# EAGLE library part MCP6L02 (library yapo)
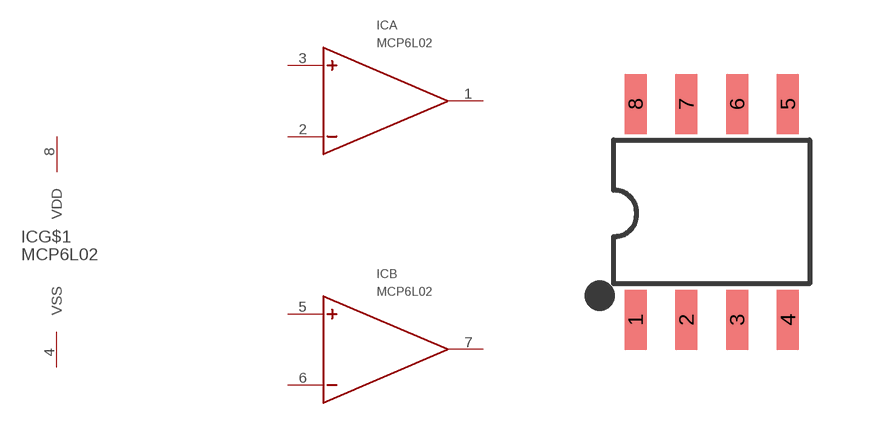
[diagram p89: symbol with the pads of SOIC8; footprint SOIC8]

Designator prefix IC; gates G$1=VDD-VSS A=OP_AMP B=OP_AMP

## MCP6L02  [SOIC8]
1  A:OUT
2  A:-
3  A:+
4  G$1:VSS
5  B:+
6  B:-
7  B:OUT
8  G$1:VDD

## Footprint SOIC8 (pad centres in mm)
smd 0.55 x 1.5: 1 -1.905,-2.7; 2 -0.635,-2.7; 3 0.635,-2.7; 4 1.905,-2.7; 5 1.905,2.7; 6 0.635,2.7; 7 -0.635,2.7; 8 -1.905,2.7